# EAGLE library part GP2S+ (library minicircuits)
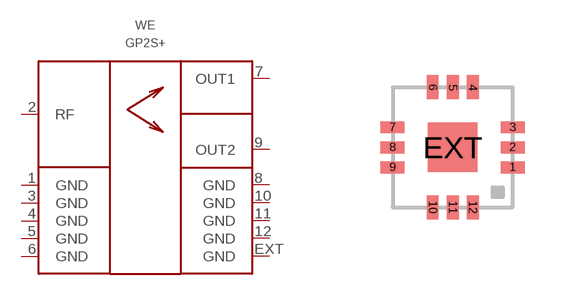
[diagram p0: symbol with the pads of GP2S; footprint GP2S]

Designator prefix WE

## GP2S+  [GP2S]
1  GND  pas
2  RF  pas
3  GND  pas
4  GND  pas
5  GND  pas
6  GND  pas
7  OUT1  pas
8  GND  pas
9  OUT2  pas
10  GND  pas
11  GND  pas
12  GND  pas
EXT  GND  pas

## Footprint GP2S (pad centres in mm)
smd 0.6 x 0.3: 1 1.5,-0.5; 2 1.5,0; 3 1.5,0.5; 7 -1.5,0.5; 8 -1.5,0; 9 -1.5,-0.5
smd 0.3 x 0.6: 4 0.5,1.5; 5 0,1.5; 6 -0.5,1.5; 10 -0.5,-1.5; 11 0,-1.5; 12 0.5,-1.5
smd 1.24 x 1.24: EXT 0,0